# EAGLE library part AVX-24-5046-030-630-829 (library CNTRL_BOARD)
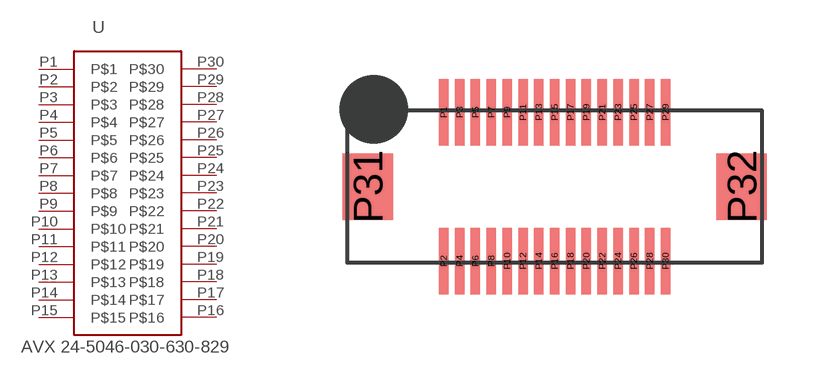
[diagram p9: symbol with the pads of AVX-24-5046-630-829; footprint AVX-24-5046-630-829]

Designator prefix -

## AVX-24-5046-030-630-829  [AVX-24-5046-630-829]
P1  P$1
P2  P$2
P3  P$3
P4  P$4
P5  P$5
P6  P$6
P7  P$7
P8  P$8
P9  P$9
P10  P$10
P11  P$11
P12  P$12
P13  P$13
P14  P$14
P15  P$15
P16  P$16
P17  P$17
P18  P$18
P19  P$19
P20  P$20
P21  P$21
P22  P$22
P23  P$23
P24  P$24
P25  P$25
P26  P$26
P27  P$27
P28  P$28
P29  P$29
P30  P$30

## Footprint AVX-24-5046-630-829 (pad centres in mm)
smd 0.3 x 2.1: P1 -3.45,2.35; P2 -3.45,-2.35; P3 -2.95,2.35; P4 -2.95,-2.35; P5 -2.45,2.35; P6 -2.45,-2.35; P7 -1.95,2.35; P8 -1.95,-2.35; P9 -1.45,2.35; P10 -1.45,-2.35; P11 -0.95,2.35; P12 -0.95,-2.35; P13 -0.45,2.35; P14 -0.45,-2.35; P15 0.05,2.35; P16 0.05,-2.35; P17 0.55,2.35; P18 0.55,-2.35; P19 1.05,2.35; P20 1.05,-2.35; P21 1.55,2.35; P22 1.55,-2.35; P23 2.05,2.35; P24 2.05,-2.35; P25 2.55,2.35; P26 2.55,-2.35; P27 3.05,2.35; P28 3.05,-2.35; P29 3.55,2.35; P30 3.55,-2.35
smd 1.6 x 2.1: P31 -5.85,0; P32 5.95,0